# Altium schematic symbol library MCP73831-2ACI_MC.SchLib: 1 symbol
Pins are listed as number, name and electrical type; pins without a type are passive.

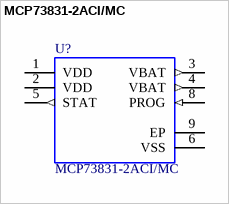
[diagram p0: symbol MCP73831-2ACI/MC]

## MCP73831-2ACI/MC
designator U?
MCP73831 Series Single-Cell Li-Ion/Li-Polymer Battery Charge Controller - DFN-8; MF: Microchip; Price: None; MP: MCP73831-2ACI/MC; Package: VFDFN-8 Microchip; SnapEDA_Link: https://www.snapeda.com/parts/MCP73831-2ACI/MC/Microchip/view-part/?ref=snap; Availability: Unavailable; Value: *
footprint *SON50P200X300X100-9N
pins: 1 VDD (power), 2 VDD (power), 3 VBAT (out), 4 VBAT (out), 5 STAT (out), 6 VSS (power), 8 PROG (in), 9 EP (power)